# Altium footprint library B78476A8065A003.PcbLib: 1 footprints
Each footprint in its own frame and in the unit in brackets; x right, y up, seen from the top. Pads: shape width x height; smd on the part's side, far side on the other; paste and mask are expansions set on the pad; w line width, h text height; cw(c..) or ccw(c..) is an arc to the next point about the centre after c.
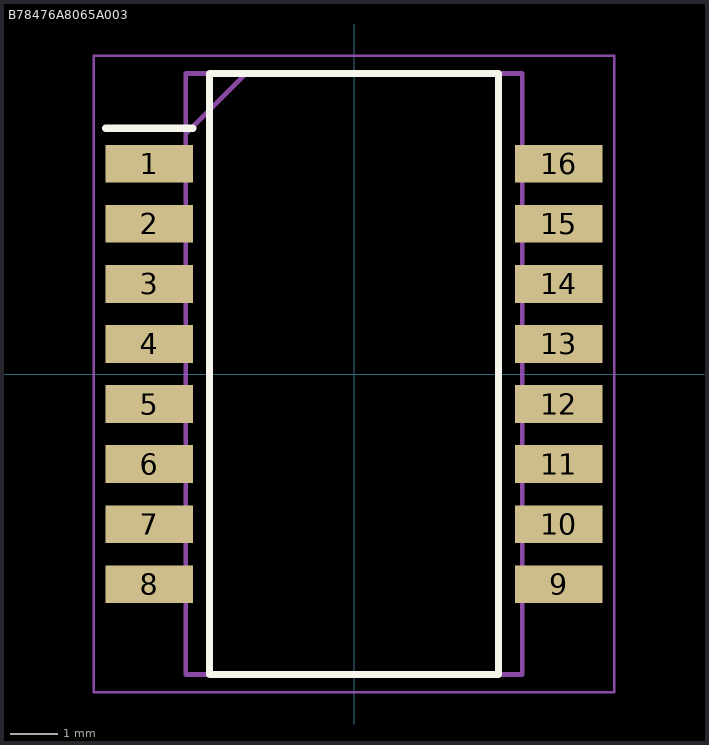
[diagram p0: the footprint, top view; thin cyan lines are the x and y axes]

## B78476A8065A003 [mm]
pads (16):
  rect 1.85x0.8 smd: 1(-4.325,4.445) 2(-4.325,3.175) 3(-4.325,1.905) 4(-4.325,0.635) 5(-4.325,-0.635) 6(-4.325,-1.905) 7(-4.325,-3.175) 8(-4.325,-4.445) 9(4.325,-4.445) 10(4.325,-3.175) 11(4.325,-1.905) 12(4.325,-0.635) 13(4.325,0.635) 14(4.325,1.905) 15(4.325,3.175) 16(4.325,4.445)
Top Overlay:
  lines w0.15: -5.25,5.195 -3.4,5.195 ; -3.05,-6.35 3.05,-6.35 3.05,6.35 -3.05,6.35 -3.05,-6.35
Mechanical 15:
  lines w0.1: -3.555,5.08 -2.285,6.35 ; -3.555,-6.35 3.555,-6.35 3.555,6.35 -3.555,6.35 -3.555,-6.35
Mechanical 20:
  lines w0.05: -5.5,-6.725 5.5,-6.725 5.5,6.725 -5.5,6.725 -5.5,-6.725
3D body "B78476A8065A003.stp": height 5.85, standoff 0, extent -4.7,-6.35 4.7,6.35